# EAGLE library part OPENCM_REDUC (library RobotCampus)
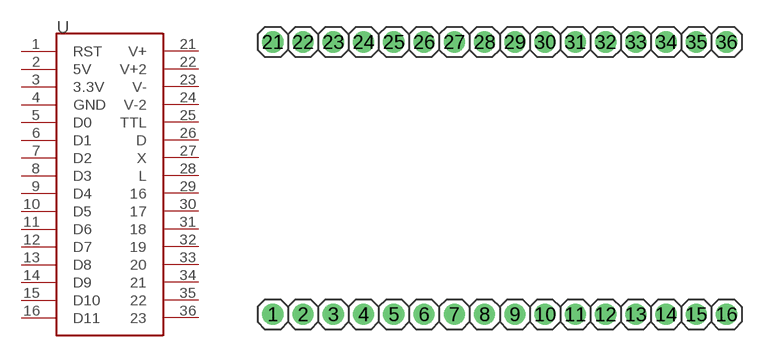
[diagram p7: symbol with the pads of OPENCM_REDUC; footprint OPENCM_REDUC]

Designator prefix -

## OPENCM_REDUC  [OPENCM_REDUC]
1  RST
2  5V
3  3.3V
4  GND
5  D0
6  D1
7  D2
8  D3
9  D4
10  D5
11  D6
12  D7
13  D8
14  D9
15  D10
16  D11
21  V+
22  V+2
23  V-
24  V-2
25  TTL
26  D
27  X
28  L
29  16
30  17
31  18
32  19
33  20
34  21
35  22
36  23

## Footprint OPENCM_REDUC (pad centres in mm)
drill 1 pad 1.778: 1 0,-21.59; 2 2.54,-21.59; 3 5.08,-21.59; 4 7.62,-21.59; 5 10.16,-21.59; 6 12.7,-21.59; 7 15.24,-21.59; 8 17.78,-21.59; 9 20.32,-21.59; 10 22.86,-21.59; 11 25.4,-21.59; 12 27.94,-21.59; 13 30.48,-21.59; 14 33.02,-21.59; 15 35.56,-21.59; 16 38.1,-21.59; 21 0,1.27; 22 2.54,1.27; 23 5.08,1.27; 24 7.62,1.27; 25 10.16,1.27; 26 12.7,1.27; 27 15.24,1.27; 28 17.78,1.27; 29 20.32,1.27; 30 22.86,1.27; 31 25.4,1.27; 32 27.94,1.27; 33 30.48,1.27; 34 33.02,1.27; 35 35.56,1.27; 36 38.1,1.27